# EAGLE library part ADC10040 (library ADC10040)
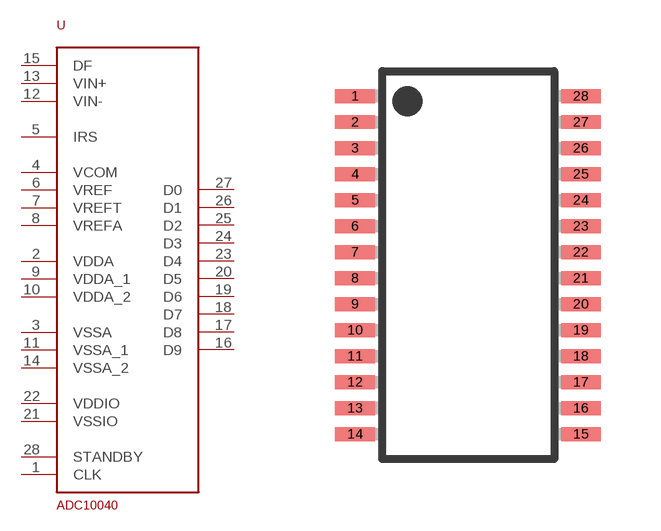
[diagram p0: symbol with the pads of _SSOP; footprint _SSOP]

Designator prefix -

## ADC10040  [_SSOP]
1  CLK
2  VDDA
3  VSSA
4  VCOM
5  IRS
6  VREF
7  VREFT
8  VREFA
9  VDDA_1
10  VDDA_2
11  VSSA_1
12  VIN-
13  VIN+
14  VSSA_2
15  DF
16  D9  out
17  D8  out
18  D7  out
19  D6  out
20  D5  out
21  VSSIO
22  VDDIO
23  D4  out
24  D3  out
25  D2  out
26  D1  out
27  D0  out
28  STANDBY

## Footprint _SSOP (pad centres in mm)
smd 1 x 0.35: 1 -2.85,4.165; 2 -2.85,3.515; 3 -2.85,2.865; 4 -2.85,2.215; 5 -2.85,1.565; 6 -2.85,0.915; 7 -2.85,0.265; 8 -2.85,-0.385; 9 -2.85,-1.035; 10 -2.85,-1.685; 11 -2.85,-2.335; 12 -2.85,-2.985; 13 -2.85,-3.635; 14 -2.85,-4.285; 15 2.8,-4.285; 16 2.8,-3.635; 17 2.8,-2.985; 18 2.8,-2.335; 19 2.8,-1.685; 20 2.8,-1.035; 21 2.8,-0.385; 22 2.8,0.265; 23 2.8,0.915; 24 2.8,1.565; 25 2.8,2.215; 26 2.8,2.865; 27 2.8,3.515; 28 2.8,4.165